# Altium footprint library MCU_MKlib.PcbLib: 5 footprints
Each footprint in its own frame and in the unit in brackets; x right, y up, seen from the top. Pads: shape width x height; smd on the part's side, far side on the other; paste and mask are expansions set on the pad; w line width, h text height; cw(c..) or ccw(c..) is an arc to the next point about the centre after c.
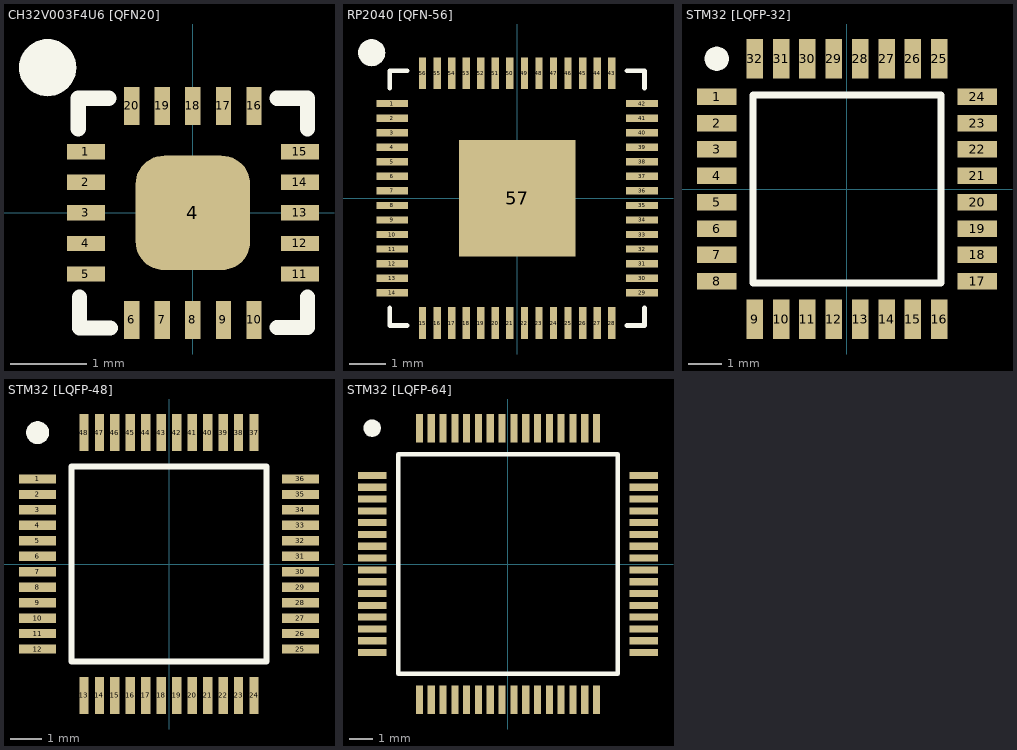
[diagram p0: the footprints below, top view; thin cyan lines are the x and y axes]

## CH32V003F4U6 [QFN20] [mm]
pads (22):
  rect 0.5x0.2 smd: 1(-1.4,0.8) 2(-1.4,0.4) 3(-1.4,0) 4(-1.4,-0.4) 5(-1.4,-0.8) 11(1.4,-0.8) 12(1.4,-0.4) 13(1.4,0) 14(1.4,0.4) 15(1.4,0.8)
  rrect50% 1.5x1.5 smd: 4(0,0)
  rect 0.2x0.5 smd: 6(-0.8,-1.4) 7(-0.4,-1.4) 8(0,-1.4) 9(0.4,-1.4) 10(0.8,-1.4) 16(0.8,1.4) 17(0.4,1.4) 18(0,1.4) 19(-0.4,1.4) 20(-0.8,1.4)
  round 0.75 on Top Overlay: ""(-1.9,1.9)
Top Overlay:
  lines w0.2: -1.5,1.1 -1.5,1.5 -1.1,1.5 ; -1.482,-1.105 -1.482,-1.505 -1.082,-1.505 ; 1.1,-1.5 1.5,-1.5 1.5,-1.1 ; 1.1,1.5 1.5,1.5 1.5,1.1
3D body "CH32V003F4U6.STEP": height 0.6, standoff 0, extent -1.5,-1.5 1.5,1.5

## RP2040 [QFN-56] [mm]
pads (58):
  rect 0.875x0.2 smd: 1(-3.435,2.6) 2(-3.435,2.2) 3(-3.435,1.8) 4(-3.435,1.4) 5(-3.435,1) 6(-3.435,0.6) 7(-3.435,0.2) 8(-3.435,-0.2) 9(-3.435,-0.6) 10(-3.435,-1) 11(-3.435,-1.4) 12(-3.435,-1.8) 13(-3.435,-2.2) 14(-3.435,-2.6) 29(3.435,-2.6) 30(3.435,-2.2) 31(3.435,-1.8) 32(3.435,-1.4) 33(3.435,-1) 34(3.435,-0.6) 35(3.435,-0.2) 36(3.435,0.2) 37(3.435,0.6) 38(3.435,1) 39(3.435,1.4) 40(3.435,1.8) 41(3.435,2.2) 42(3.435,2.6)
  rect 0.2x0.875 smd: 15(-2.6,-3.435) 16(-2.2,-3.435) 17(-1.8,-3.435) 18(-1.4,-3.435) 19(-1,-3.435) 20(-0.6,-3.435) 21(-0.2,-3.435) 22(0.2,-3.435) 23(0.6,-3.435) 24(1,-3.435) 25(1.4,-3.435) 26(1.8,-3.435) 27(2.2,-3.435) 28(2.6,-3.435) 43(2.6,3.435) 44(2.2,3.435) 45(1.8,3.435) 46(1.4,3.435) 47(1,3.435) 48(0.6,3.435) 49(0.2,3.435) 50(-0.2,3.435) 51(-0.6,3.435) 52(-1,3.435) 53(-1.4,3.435) 54(-1.8,3.435) 55(-2.2,3.435) 56(-2.6,3.435)
  rect 3.2x3.2 smd paste-0.57: 57(0,0)
  round 0.75 on Top Overlay: ""(-4,4)
Top Overlay:
  lines w0.127: -3.5,-3.02 -3.5,-3.5 -3.02,-3.5 ; -3.5,3.02 -3.5,3.5 -3.02,3.5 ; 3.02,-3.5 3.5,-3.5 3.5,-3.02 ; 3.02,3.5 3.5,3.5 3.5,3.02
3D body "RP2040_QFN56.STEP": height 0.9, standoff 0, extent -3.5,-3.5 3.5,3.5

## STM32 [LQFP-32] [mm]
pads (33):
  rect 1.2x0.5 smd: 1(-3.95,2.8) 2(-3.95,2) 3(-3.95,1.2) 4(-3.95,0.4) 5(-3.95,-0.4) 6(-3.95,-1.2) 7(-3.95,-2) 8(-3.95,-2.8) 17(3.95,-2.8) 18(3.95,-2) 19(3.95,-1.2) 20(3.95,-0.4) 21(3.95,0.4) 22(3.95,1.2) 23(3.95,2) 24(3.95,2.8)
  rect 0.5x1.2 smd: 9(-2.8,-3.95) 10(-2,-3.95) 11(-1.2,-3.95) 12(-0.4,-3.95) 13(0.4,-3.95) 14(1.2,-3.95) 15(2,-3.95) 16(2.8,-3.95) 25(2.8,3.95) 26(2,3.95) 27(1.2,3.95) 28(0.4,3.95) 29(-0.4,3.95) 30(-1.2,3.95) 31(-2,3.95) 32(-2.8,3.95)
  round 0.75 on Top Overlay: ""(-3.95,3.95)
Top Overlay:
  lines w0.2: -2.85,-2.85 -2.85,2.85 2.85,2.85 2.85,-2.85 -2.85,-2.85
3D body "STM32 [LQFP32].STEP": height 1.6, standoff 0, extent -4.5,-4.5 4.5,4.5

## STM32 [LQFP-48] [mm]
pads (49):
  rect 1.2x0.3 smd: 1(-4.25,2.75) 2(-4.25,2.25) 3(-4.25,1.75) 4(-4.25,1.25) 5(-4.25,0.75) 6(-4.25,0.25) 7(-4.25,-0.25) 8(-4.25,-0.75) 9(-4.25,-1.25) 10(-4.25,-1.75) 11(-4.25,-2.25) 12(-4.25,-2.75) 25(4.25,-2.75) 26(4.25,-2.25) 27(4.25,-1.75) 28(4.25,-1.25) 29(4.25,-0.75) 30(4.25,-0.25) 31(4.25,0.25) 32(4.25,0.75) 33(4.25,1.25) 34(4.25,1.75) 35(4.25,2.25) 36(4.25,2.75)
  rect 0.3x1.2 smd: 13(-2.75,-4.25) 14(-2.25,-4.25) 15(-1.75,-4.25) 16(-1.25,-4.25) 17(-0.75,-4.25) 18(-0.25,-4.25) 19(0.25,-4.25) 20(0.75,-4.25) 21(1.25,-4.25) 22(1.75,-4.25) 23(2.25,-4.25) 24(2.75,-4.25) 37(2.75,4.25) 38(2.25,4.25) 39(1.75,4.25) 40(1.25,4.25) 41(0.75,4.25) 42(0.25,4.25) 43(-0.25,4.25) 44(-0.75,4.25) 45(-1.25,4.25) 46(-1.75,4.25) 47(-2.25,4.25) 48(-2.75,4.25)
  round 0.75 on Top Overlay: ""(-4.25,4.25)
Top Overlay:
  lines w0.2: -3.15,-3.15 3.15,-3.15 3.15,3.15 -3.15,3.15 -3.15,-3.15
3D body "STM32_LQFP48.STEP": height 1.6, standoff 0, extent -4.5,-4.5 4.5,4.5

## STM32 [LQFP-64] [mm]
pads (65):
  rect 1.2x0.3 smd: 1(-5.75,3.75) 2(-5.75,3.25) 3(-5.75,2.75) 4(-5.75,2.25) 5(-5.75,1.75) 6(-5.75,1.25) 7(-5.75,0.75) 8(-5.75,0.25) 9(-5.75,-0.25) 10(-5.75,-0.75) 11(-5.75,-1.25) 12(-5.75,-1.75) 13(-5.75,-2.25) 14(-5.75,-2.75) 15(-5.75,-3.25) 16(-5.75,-3.75) 33(5.75,-3.75) 34(5.75,-3.25) 35(5.75,-2.75) 36(5.75,-2.25) 37(5.75,-1.75) 38(5.75,-1.25) 39(5.75,-0.75) 40(5.75,-0.25) 41(5.75,0.25) 42(5.75,0.75) 43(5.75,1.25) 44(5.75,1.75) 45(5.75,2.25) 46(5.75,2.75) 47(5.75,3.25) 48(5.75,3.75)
  rect 0.3x1.2 smd: 17(-3.75,-5.75) 18(-3.25,-5.75) 19(-2.75,-5.75) 20(-2.25,-5.75) 21(-1.75,-5.75) 22(-1.25,-5.75) 23(-0.75,-5.75) 24(-0.25,-5.75) 25(0.25,-5.75) 26(0.75,-5.75) 27(1.25,-5.75) 28(1.75,-5.75) 29(2.25,-5.75) 30(2.75,-5.75) 31(3.25,-5.75) 32(3.75,-5.75) 49(3.75,5.75) 50(3.25,5.75) 51(2.75,5.75) 52(2.25,5.75) 53(1.75,5.75) 54(1.25,5.75) 55(0.75,5.75) 56(0.25,5.75) 57(-0.25,5.75) 58(-0.75,5.75) 59(-1.25,5.75) 60(-1.75,5.75) 61(-2.25,5.75) 62(-2.75,5.75) 63(-3.25,5.75) 64(-3.75,5.75)
  round 0.75 on Top Overlay: ""(-5.75,5.75)
Top Overlay:
  lines w0.2: -4.65,-4.65 -4.65,4.65 4.65,4.65 4.65,-4.65 -4.65,-4.65
3D body "STM32_LQFP64.STEP": height 1.6, standoff 0, extent -6,-6 6,6